# Altium schematic symbol library 3-Capacitors 陶瓷贴片.SchLib: 59 symbols
Pins are listed as number, name and electrical type; pins without a type are passive.

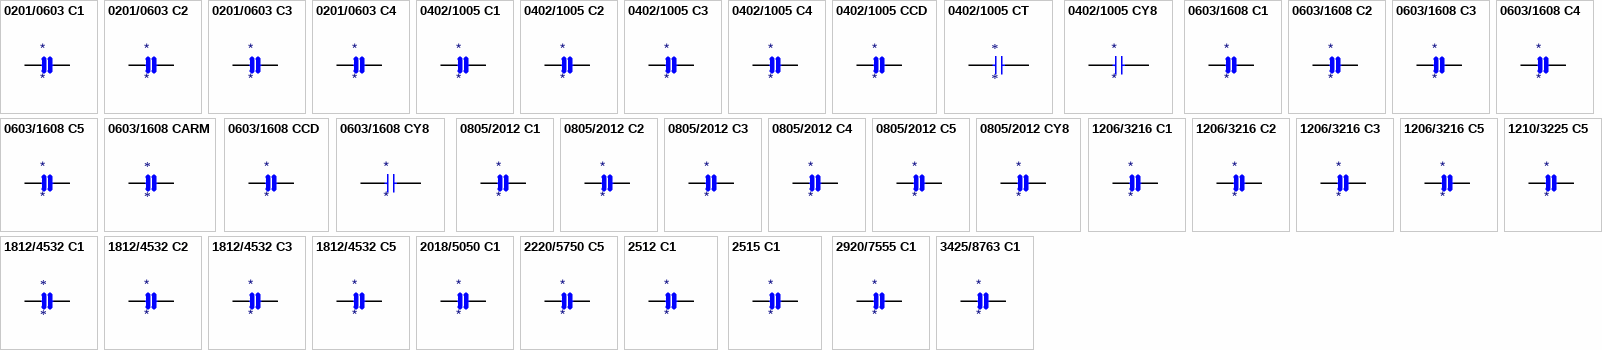
[diagram p0: symbols 0201/0603 C1 to 3425/8763 C1]

## 0201/0603 C1
designator *
footprint 0201/0603 C1
pins: 1, 2

## 0201/0603 C2
designator *
footprint 0201/0603 C2
pins: 1, 2

## 0201/0603 C3
designator *
footprint 0201/0603 C3
pins: 1, 2

## 0201/0603 C4
designator *
footprint 0201/0603 C4
pins: 1, 2

## 0402/1005 C1
designator *
pins: 1, 2

## 0402/1005 C2
designator *
footprint 0402/1005 C2
pins: 1, 2

## 0402/1005 C3
designator *
footprint 0402/1005 C3
pins: 1, 2

## 0402/1005 C4
designator *
footprint 0402/1005 C4
pins: 1, 2

## 0402/1005 CCD
designator *
footprint 0402/1005 CCD
pins: 1, 2

## 0402/1005 CT
designator *
footprint 0402/1005 CT
pins: 1, 2

## 0402/1005 CY8
designator *
footprint 0402/1005 CY8
pins: 1, 2

## 0603/1608 C1
designator *
footprint 0603/1608 C1
pins: 1, 2

## 0603/1608 C2
designator *
footprint 0603/1608 C2
pins: 1, 2

## 0603/1608 C3
designator *
footprint 0603/1608 C3
pins: 1, 2

## 0603/1608 C4
designator *
footprint 0603/1608 C4
pins: 1, 2

## 0603/1608 C5
designator *
footprint 0603/1608 C5
pins: 1, 2

## 0603/1608 CARM
designator *
footprint 0603/1608 CARM
pins: 1, 2

## 0603/1608 CCD
designator *
footprint 0603/1608 CCD
pins: 1, 2

## 0603/1608 CY8
designator *
footprint 0603/1608 CY8
pins: 1, 2

## 0805/2012 C1
designator *
footprint 0805/2012 C1
pins: 1, 2

## 0805/2012 C2
designator *
footprint 0805/2012 C2
pins: 1, 2

## 0805/2012 C3
designator *
footprint 0805/2012 C3
pins: 1, 2

## 0805/2012 C4
designator *
footprint 0805/2012 C4
pins: 1, 2

## 0805/2012 C5
designator *
footprint 0805/2012 C5
pins: 1, 2

## 0805/2012 CY8
designator *
footprint 0805/2012 CY8
pins: 1, 2

## 1206/3216 C1
designator *
footprint 1206/3216 C1
pins: 1, 2

## 1206/3216 C2
designator *
pins: 1, 2

## 1206/3216 C3
designator *
pins: 1, 2

## 1206/3216 C5
designator *
footprint 1206_C_nE
pins: 1, 2

## 1210/3225 C5
designator *
footprint 1210/3225 C5
pins: 1, 2

## 1812/4532 C1
designator *
footprint 1812/4532 C1
pins: 1, 2

## 1812/4532 C2
designator *
pins: 1, 2

## 1812/4532 C3
designator *
footprint 1812/4532 C3
pins: 1, 2

## 1812/4532 C5
designator *
pins: 1, 2

## 2018/5050 C1
designator *
pins: 1, 2

## 2220/5750 C5
designator *
footprint 2220/5750 C5
pins: 1, 2

## 2512 C1
designator *
footprint 2512 C1
pins: 1, 2

## 2515 C1
designator *
pins: 1, 2

## 2920/7555 C1
designator *
pins: 1, 2

## 3425/8763 C1
designator *
pins: 1, 2

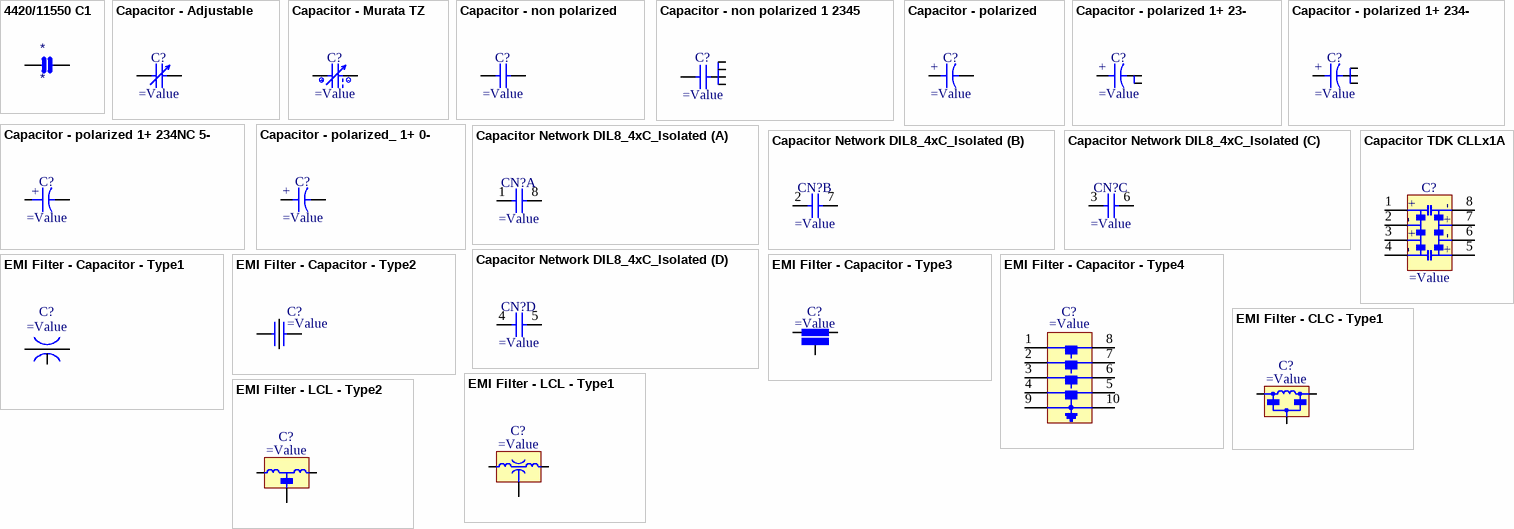
[diagram p1: symbols 4420/11550 C1 to EMI Filter - LCL - Type2]

## 4420/11550 C1
designator *
pins: 1, 2

## Capacitor - Adjustable
designator C?
Adjustable Capacitor
pins: 1, 2

## Capacitor - Murata TZ
designator C?
Ceramic Trimmer Capacitor, Murata TZ
pins: 1, 2

## Capacitor - non polarized
designator C?
Non-polarised capacitor
pins: 1, 2

## Capacitor - non polarized 1 2345
designator C?
5 Pin (1 + 4 Pin) Non-polarised capacitor
pins: 1, 2, 3, 4, 5

## Capacitor - polarized
designator C?
Polarised capacitor
pins: 1, 2
text: +

## Capacitor - polarized 1+ 23-
designator C?
Polarised capacitor
pins: 1, 2, 3
text: +

## Capacitor - polarized 1+ 234-
designator C?
Polarised capacitor
pins: 1, 2, 3, 4
text: +

## Capacitor - polarized 1+ 234NC 5-
designator C?
5 Leads Polarised capacitor
pins: 1, 2 (power) hidden, 3 (power) hidden, 4 (power) hidden, 5
text: +

## Capacitor - polarized_ 1+ 0-
designator C?
Polarised capacitor
pins: 0 -, 1
text: +

## Capacitor Network DIL8_4xC_Isolated
designator CN?
DIL8 Capacitor Network 4 Isolated Capacitors
part A pins: 1, 8
part B pins: 2, 7
part C pins: 3, 6
part D pins: 4, 5

## Capacitor TDK CLLx1A
designator C?
Ultra Low Inductance Capacitor, TDK CLL Serie
pins: 1, 2, 3, 4, 5, 6, 7, 8
text: +; -

## EMI Filter - Capacitor - Type1
designator C?
EMI Filter - Capacitor Type 1
pins: 1, 2, 3

## EMI Filter - Capacitor - Type2
designator C?
EMI Filter - Capacitor Type 2
pins: 1, 2, G1, G2

## EMI Filter - Capacitor - Type3
designator C?
EMI Filter - Capacitor Type 3
pins: 1, 2, 3

## EMI Filter - Capacitor - Type4
designator C?
EMI Filter - Capacitor Type 4
pins: 1, 2, 3, 4, 5, 6, 7, 8, 9 GND (power), 10 GND (power)

## EMI Filter - CLC - Type1
designator C?
EMI PI Filter
pins: 1, 2, G

## EMI Filter - LCL - Type1
designator C?
EMI Filter (LC Combined)
pins: 1, 2, 3

## EMI Filter - LCL - Type2
designator C?
EMI Filter (LC Combined)
pins: 1, 2, 3